# Altium schematic symbol library TS02-66-50-BK-260-LCR-D.SchLib: 1 symbol
Pins are listed as number, name and electrical type; pins without a type are passive.

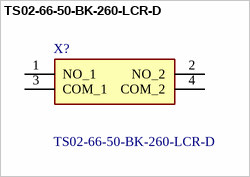
[diagram p0: symbol TS02-66-50-BK-260-LCR-D]

## TS02-66-50-BK-260-LCR-D
designator X?
6 x 6 mm, 5 mm Actuator Height, 260 gf, Black, Long Crimped, Through Hole, SPST, Tactile Switch; Manufacturer_Name: Same Sky; Geometry.Height: 5.2mm; Mouser Part Number: 179-TS026650BK260LCR; Mouser Price/Stock: https://www.mouser.co.uk/ProductDetail/Same-Sky/TS02-66-50-BK-260-LCR-D?qs=A6eO%252BMLsxmSvgpm8sQwHAQ%3D%3D; Manufacturer_Part_Number: TS02-66-50-BK-260-LCR-D; Datasheet Link: https://www.sameskydevices.com/product/resource/ts02.pdf
footprint TS026650BK260LCRD
pins: 1 NO_1, 2 NO_2, 3 COM_1, 4 COM_2